# EAGLE library part MP34DT05TR-A (library MP34DT05TR-A)
STMICROELECTRONICS - MP34DT05TR-A - MEMS MICROPHONE, 3.6V, HCLGA-4 Source: Datasheet <http://www.st.com/content/ccc/resource/technical/document/datasheet/group3/c7/90/d3/f6/b7/e7/40/c8/DM00415595/files/DM00415595.pdf/jcr:content/translations/en.DM00415595.pdf>
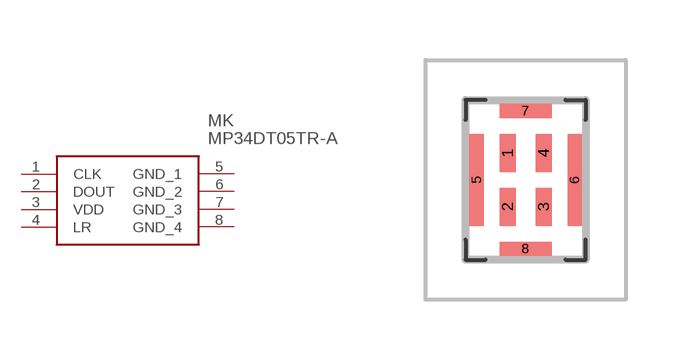
[diagram p0: symbol with the pads of MP34DT05TRA; footprint MP34DT05TRA]

Designator prefix MK

## MP34DT05TR-A (Description: STMICROELECTRONICS - MP34DT05TR-A - MEMS MICROPHONE, 3.6V, HCLGA-4; Height: 1mm; Manufacturer_Name: STMicroelectronics; Manufacturer_Part_Number: MP34DT05TR-A; Mouser_Part_Number: 511-MP34DT05TR-A; Mouser_Price-Stock: https://www.mouser.com/Search/Refine.aspx?Keyword=511-MP34DT05TR-A)  [MP34DT05TRA]
1  CLK
2  DOUT
3  VDD
4  LR
5  GND_1
6  GND_2
7  GND_3
8  GND_4

## Footprint MP34DT05TRA (pad centres in mm)
HCLGA (3 x 4 x 1 mm)
smd 0.4 x 0.95: 1 -0.45,0.675; 2 -0.45,-0.675; 3 0.45,-0.675; 4 0.45,0.675
smd 0.35 x 2.3: 5 -1.225,0; 6 1.225,0
smd 1.3 x 0.35: 7 0,1.725; 8 0,-1.725